# Altium footprint library stm32c8t6.PcbLib: 17 footprints (part 2 of 2)
Each footprint in its own frame and in the unit in brackets; x right, y up, seen from the top. Pads: shape width x height; smd on the part's side, far side on the other; paste and mask are expansions set on the pad; w line width, h text height; cw(c..) or ccw(c..) is an arc to the next point about the centre after c.
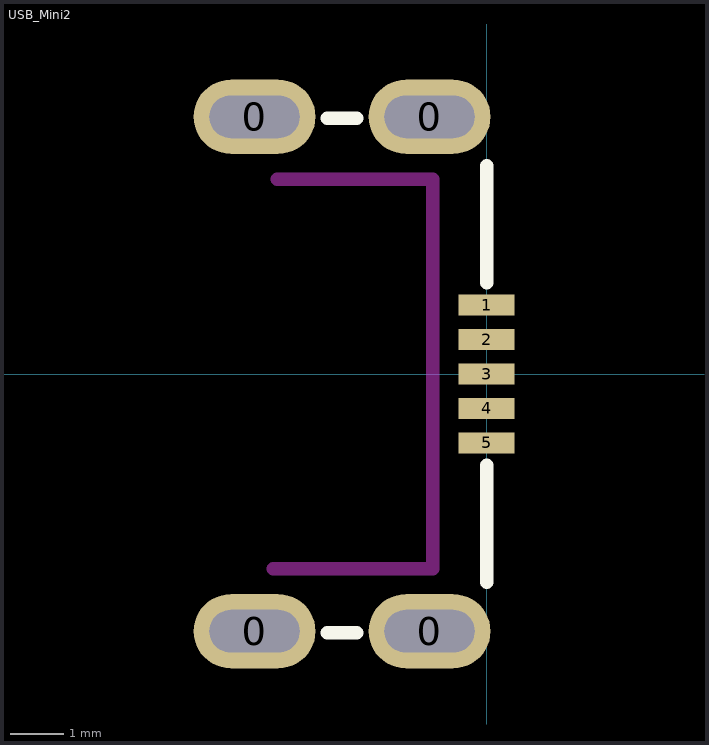
[diagram p1: the footprint, top view; thin cyan lines are the x and y axes]

## USB_Mini2 [mm]
pads (9):
  oval 2.3x1.4 hole 0.8 slot 1.7 at 0 deg: 0(-4.375,-4.85) 0(-4.375,4.85) 0(-1.075,-4.85) 0(-1.075,4.85)
  rect 1.05x0.4 smd: 1(0,1.3) 2(0,0.65) 3(0,0) 4(0,-0.65) 5(0,-1.3)
Top Overlay:
  lines w0.254: -3,-4.875 -2.45,-4.875 ; -3,4.825 -2.45,4.825 ; 0,-3.925 0,-1.725 ; 0,1.725 0,3.925
Keep-Out Layer:
  lines w0.254: -4.025,-3.675 -1.016,-3.675 -1.016,3.675 -3.95,3.675
3D body "Micro usb2.stp": height 1.68, standoff -1.15, extent -7.205,-5.1 0.025,5.1